# EAGLE library part MPU9150 (library xess)
Invensense MPU9150 Invensense 9-Axis Gyro/Accelerometer/Compass.
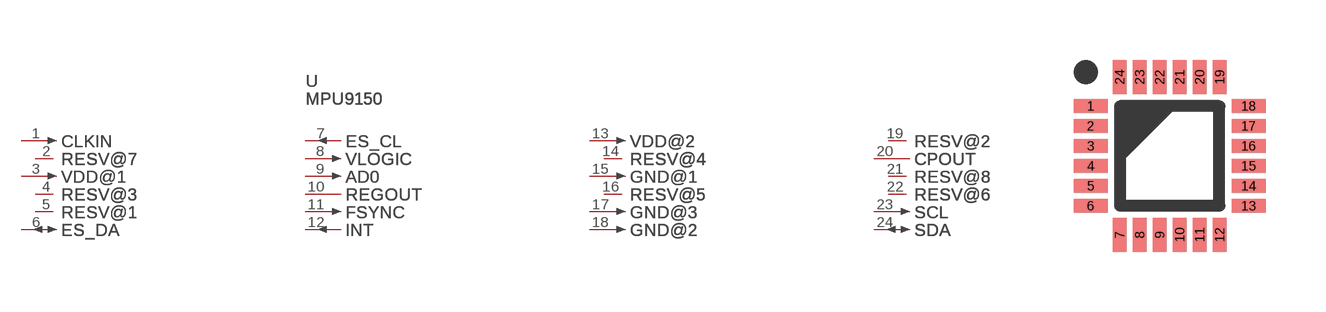
[diagram p162: symbol with the pads of INVENSENSE-24_QFN; footprint INVENSENSE-24_QFN]

Designator prefix U; gates PART=PV_GATE CLKIN=PIN_GATE_IN RESV@7=PIN_GATE_NC VDD@1=PIN_GATE_IN RESV@3=PIN_GATE_NC RESV@1=PIN_GATE_NC ES_DA=PIN_GATE_IO ES_CL=PIN_GATE_OUT VLOGIC=PIN_GATE_IN AD0=PIN_GATE_IN REGOUT=PIN_GATE_PAS FSYNC=PIN_GATE_IN INT=PIN_GATE_OUT VDD@2=PIN_GATE_IN RESV@4=PIN_GATE_NC GND@1=PIN_GATE_IN RESV@5=PIN_GATE_NC GND@3=PIN_GATE_IN GND@2=PIN_GATE_IN RESV@2=PIN_GATE_NC CPOUT=PIN_GATE_PAS RESV@8=PIN_GATE_NC RESV@6=PIN_GATE_NC SCL=PIN_GATE_IN SDA=PIN_GATE_IO

## MPU9150-QFN24 (DIGIKEY#: 1428-1009-1-ND; MANF: InvenSense; MANF#: MPU-9150)  [INVENSENSE-24_QFN]
1  CLKIN:1  in
2  RESV@7:1  nc
3  VDD@1:1  in
4  RESV@3:1  nc
5  RESV@1:1  nc
6  ES_DA:1
7  ES_CL:1  out
8  VLOGIC:1  in
9  AD0:1  in
10  REGOUT:1  pas
11  FSYNC:1  in
12  INT:1  out
13  VDD@2:1  in
14  RESV@4:1  nc
15  GND@1:1  in
16  RESV@5:1  nc
17  GND@3:1  in
18  GND@2:1  in
19  RESV@2:1  nc
20  CPOUT:1  pas
21  RESV@8:1  nc
22  RESV@6:1  nc
23  SCL:1  in
24  SDA:1

## Footprint INVENSENSE-24_QFN (pad centres in mm)
Invensense 24-Lead QFN Package
smd 0.85 x 0.34: 1 0.025,0; 2 0.025,-0.5; 3 0.025,-1; 4 0.025,-1.5; 5 0.025,-2; 6 0.025,-2.5; 13 3.975,-2.5; 14 3.975,-2; 15 3.975,-1.5; 16 3.975,-1; 17 3.975,-0.5; 18 3.975,0
smd 0.34 x 0.85: 7 0.75,-3.225; 8 1.25,-3.225; 9 1.75,-3.225; 10 2.25,-3.225; 11 2.75,-3.225; 12 3.25,-3.225; 19 3.25,0.725; 20 2.75,0.725; 21 2.25,0.725; 22 1.75,0.725; 23 1.25,0.725; 24 0.75,0.725